# EAGLE library part RESISTOR-NETWORK (library work)
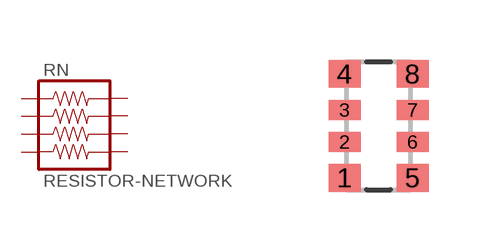
[diagram p77: symbol with the pads of 1206-Q_ARRAY; footprint 1206-Q_ARRAY]

Designator prefix RN

## RESISTOR-NETWORK-1206  [1206-Q_ARRAY]
1  1  pas
2  2  pas
3  3  pas
4  4  pas
5  5  pas
6  6  pas
7  7  pas
8  8  pas

## Footprint 1206-Q_ARRAY (pad centres in mm)
smd 0.8 x 0.7: 1 -0.85,-1.3; 4 -0.85,1.3; 5 0.85,-1.3; 8 0.85,1.3
smd 0.8 x 0.5: 2 -0.85,-0.4; 3 -0.85,0.4; 6 0.85,-0.4; 7 0.85,0.4